# Altium footprint library MPX1D1250L150.PcbLib: 1 footprints
Each footprint in its own frame and in the unit in brackets; x right, y up, seen from the top. Pads: shape width x height; smd on the part's side, far side on the other; paste and mask are expansions set on the pad; w line width, h text height; cw(c..) or ccw(c..) is an arc to the next point about the centre after c.
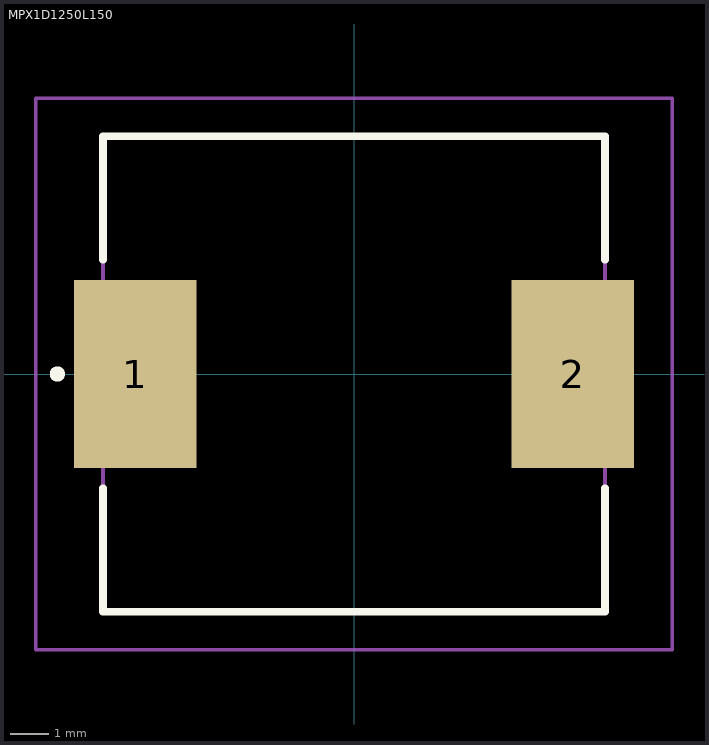
[diagram p0: the footprint, top view; thin cyan lines are the x and y axes]

## MPX1D1250L150 [mil]
pads (2):
  rect 127.01x195 smd: 1(-226.5,0) 2(226.5,0)
Top Overlay:
  lines w7.87: -259.84,-118.11 -259.84,-246.06 259.84,-246.06 259.84,-118.11 ; -259.84,118.11 -259.84,246.06 259.84,246.06 259.84,118.11 ; -307.09,-3.94 cw(c-307.09,0) -307.09,3.94 ; -307.09,-3.94 -307.09,-3.94 ; -307.09,-3.94 ccw(c-307.09,0) -307.09,3.94 ; -307.09,3.94 -307.09,3.94
Mechanical 15:
  lines w3.94: -259.84,-246.06 259.84,-246.06 259.84,246.06 -259.84,246.06 -259.84,-246.06
Mechanical 20:
  lines w3.94: -329.37,-285.43 329.37,-285.43 329.37,285.43 -329.37,285.43 -329.37,-285.43